# Altium footprint library MEM2080-00-128-00-A.PcbLib: 1 footprints
Each footprint in its own frame and in the unit in brackets; x right, y up, seen from the top. Pads: shape width x height; smd on the part's side, far side on the other; paste and mask are expansions set on the pad; w line width, h text height; cw(c..) or ccw(c..) is an arc to the next point about the centre after c.
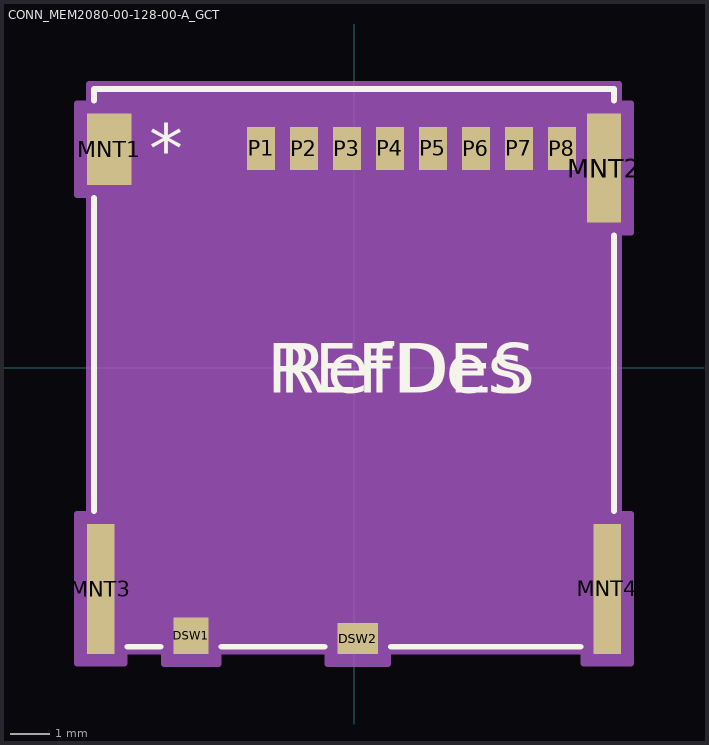
[diagram p0: the footprint, top view; thin cyan lines are the x and y axes]

## CONN_MEM2080-00-128-00-A_GCT [mil]
pads (14):
  rect 35x37 smd paste+0 mask+0: DSW1(-164.17,-269.87)
  rect 41x31 smd paste+0 mask+0: DSW2(3.74,-272.82)
  rect 45x72 smd paste+0 mask+0: MNT1(-246.46,220.29)
  rect 34x110 smd paste+0 mask+0: MNT2(251.97,201.39)
  rect 28x131 smd paste-65.5 mask-65.5: MNT3(-255.12,-222.62) MNT4(255.12,-222.62)
  rect 28x43 smd paste+0 mask+0: P1(-93.7,221.08) P2(-50.39,221.08) P3(-7.09,221.08) P4(36.22,221.08) P5(79.53,221.08) P6(122.83,221.08) P7(166.14,221.08) P8(209.45,221.08)
Top Overlay:
  lines w6: -262,-144.02 -262,171.19 ; -262,269.39 -262,281 262,281 262,269.49 ; -228.02,-281 -194.77,-281 ; -133.57,-281 -29.86,-281 ; 37.34,-281 228.02,-281 ; 262,-144.02 262,133.29
  text "*" at -206.2,196.08 h50
  text "RefDes" at -75,-25 h50
  text "REFDES" at -87.5,-25 h50
Mechanical 13:
  lines w1: -257,-276 257,-276 257,276 -257,276 -257,-276
  text "*" at -206.2,196.08 h50
  text "RefDes2" at -87.5,-25 h50
Mechanical 15:
  region: -26.76,-286 -26.76,-298.32 34.24,-298.32 34.24,-286 231.12,-286 231.12,-298.12 279.12,-298.12 279.12,-147.12 267,-147.12 267,136.39 278.97,136.39 278.97,266.39 267,266.39 267,286 -267,286 -267,266.29 -278.96,266.29 -278.96,174.29 -267,174.29 -267,-147.12 -279.12,-147.12 -279.12,-298.12 -231.12,-298.12 -231.12,-286 -191.67,-286 -191.67,-298.37 -136.67,-298.37 -136.67,-286
  lines w6: -279.12,-298.12 -279.12,-147.12 -267,-147.12 -267,174.29 -278.96,174.29 -278.96,266.29 -267,266.29 -267,286 267,286 267,266.39 278.97,266.39 278.97,136.39 267,136.39 267,-147.12 279.12,-147.12 279.12,-298.12 231.12,-298.12 231.12,-286 34.24,-286 34.24,-298.32 -26.76,-298.32 -26.76,-286 -136.67,-286 -136.67,-298.37 -191.67,-298.37 -191.67,-286 -231.12,-286 -231.12,-298.12 -279.12,-298.12